# EAGLE library part PCM1796 (library burr-brown)
AUDIO DAC 24-BIT, 192-kHz SAMPLING, AUDIO STEREO
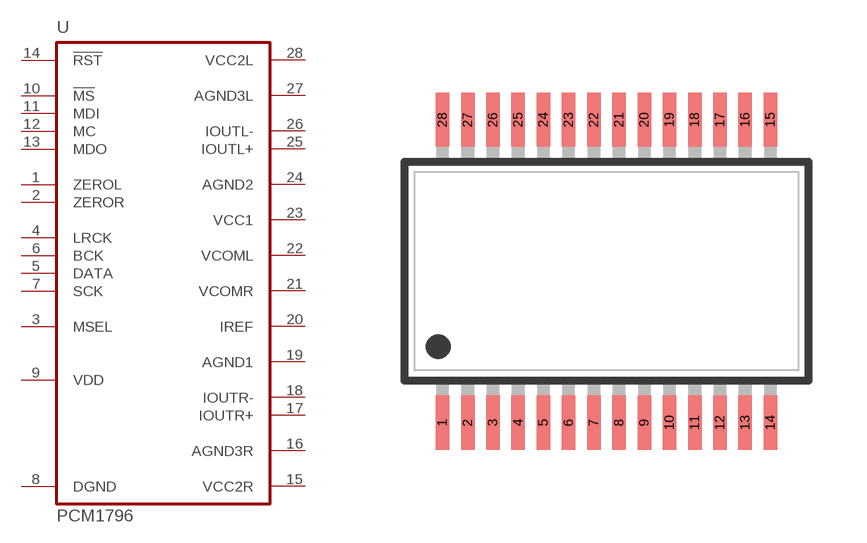
[diagram p177: symbol with the pads of SSOP28DB; footprint SSOP28DB]

Designator prefix U

## PCM1796  [SSOP28DB]
1  ZEROL
2  ZEROR
3  MSEL  in
4  LRCK  in
5  DATA  in
6  BCK  in
7  SCK  in
8  DGND  pwr
9  VDD  pwr
10  !MS!  in
11  MDI  in
12  MC  in
13  MDO  out
14  !RST!  in
15  VCC2R  pwr
16  AGND3R  pwr
17  IOUTR+  out
18  IOUTR-  out
19  AGND1  pwr
20  IREF  pas
21  VCOMR  pas
22  VCOML  pas
23  VCC1  pwr
24  AGND2  pwr
25  IOUTL+  out
26  IOUTL-  out
27  AGND3L  pwr
28  VCC2L  pwr

## Footprint SSOP28DB (pad centres in mm)
smd 0.348 x 1.397: 1 -4.225,-3.906; 2 -3.575,-3.906; 3 -2.925,-3.906; 4 -2.275,-3.906; 5 -1.625,-3.906; 6 -0.975,-3.906; 7 -0.325,-3.906; 8 0.325,-3.906; 9 0.975,-3.906; 10 1.625,-3.906; 11 2.275,-3.906; 12 2.925,-3.906; 13 3.575,-3.906; 14 4.225,-3.906; 15 4.225,3.906; 16 3.575,3.906; 17 2.925,3.906; 18 2.275,3.906; 19 1.625,3.906; 20 0.975,3.906; 21 0.325,3.906; 22 -0.325,3.906; 23 -0.975,3.906; 24 -1.625,3.906; 25 -2.275,3.906; 26 -2.925,3.906; 27 -3.575,3.906; 28 -4.225,3.906